# EAGLE library part JOYSTICK_ANALOG_XY (library Adafruit PyGamer)
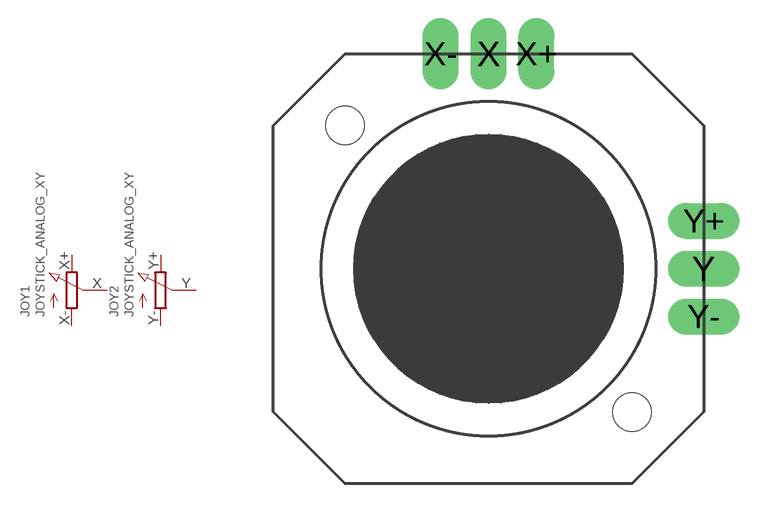
[diagram p6: symbol with the pads of JOYSTICK_ANALOG_MINITHM; footprint JOYSTICK_ANALOG_MINITHM]

Designator prefix JOY; gates 1=POTENTIOMETER 2=POTENTIOMETER

## JOYSTICK_ANALOG_XY  [JOYSTICK_ANALOG_MINITHM]
X  1:S  pas
X+  1:E  pas
X-  1:A  pas
Y  2:S  pas
Y+  2:E  pas
Y-  2:A  pas

## Footprint JOYSTICK_ANALOG_MINITHM (pad centres in mm)
drill 0.9 pad 1.5 long: X 0,9; X+ 2,9; X- -2,9; Y 9,0; Y+ 9,2; Y- 9,-2
hole 1.6 at -6,6
hole 1.6 at 6,-6